# EAGLE library part 1445055-7 (library con-amp2)
Micro MATE-N-LOK Connectors grid 1.5 mm Source: ENG_CD_1445055_A.pdf
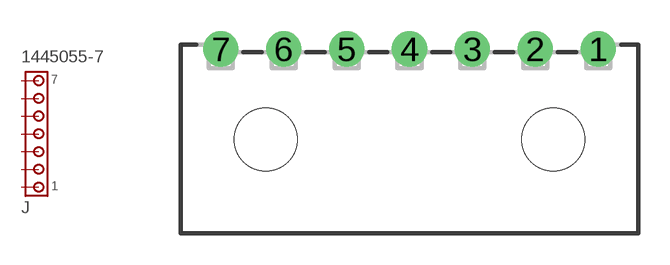
[diagram p143: symbol with the pads of 1445055-7; footprint 1445055-7]

Designator prefix J

## 1445055-7  [1445055-7]
1  1  pas
2  2  pas
3  3  pas
4  4  pas
5  5  pas
6  6  pas
7  7  pas

## Footprint 1445055-7 (pad centres in mm)
Micro MATE-N-LOK Connectors grid 1.5 mm Source: ENG_CD_1445055_A.pdf
drill 1 pad 1.676 round: 1 9,4.32; 2 6,4.32; 3 3,4.32; 4 0,4.32; 5 -3,4.32; 6 -6,4.32; 7 -9,4.32
hole 3 at -6.85,0
hole 3 at 6.85,0